# EAGLE library part N900-DISPLAY (library GTA04b7)
N900 display module (multi-functional FFC connector)
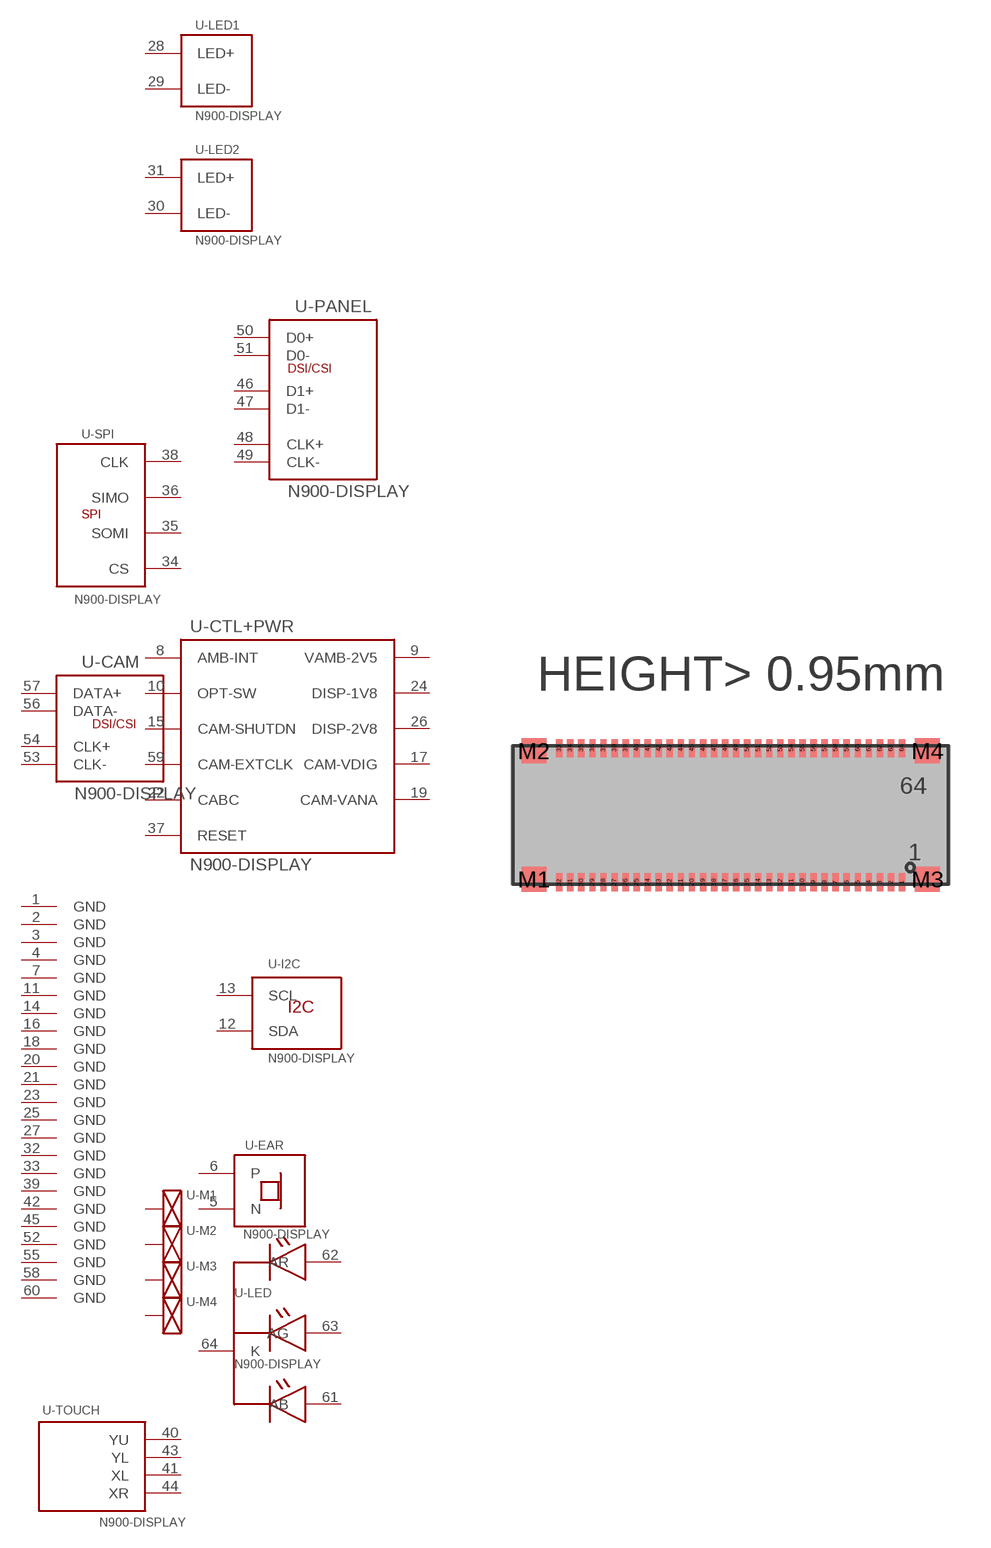
[diagram p30: symbol with the pads of 500024-6471; footprint 500024-6471]

Designator prefix -; gates -CAM=IF-MIPI1 -CTL+PWR=DISPLAY-CTL-N900 -EAR=SPEAKER -I2C=IF-I2C -LED=LED-3COLOR-K -LED1=DISPLAY-BACKLIGHT -LED2=DISPLAY-BACKLIGHT -M1=SHIELD -M2=SHIELD -M3=SHIELD -M4=SHIELD -PANEL=IF-MIPI2 -SPI=IF-SPI -TOUCH=DISPLAY-TOUCH-SMALL G$2=GND-PIN G$7=GND-PIN G$8=GND-PIN G$9=GND-PIN G$10=GND-PIN G$11=GND-PIN G$12=GND-PIN G$13=GND-PIN G$14=GND-PIN G$15=GND-PIN G$16=GND-PIN G$17=GND-PIN G$18=GND-PIN G$19=GND-PIN G$20=GND-PIN G$21=GND-PIN G$22=GND-PIN G$23=GND-PIN G$24=GND-PIN G$25=GND-PIN G$26=GND-PIN G$27=GND-PIN G$28=GND-PIN

## N900-DISPLAY  [500024-6471]
1  G$2:GND  pwr
2  G$7:GND  pwr
3  G$8:GND  pwr
4  G$9:GND  pwr
5  -EAR:N  in
6  -EAR:P  in
7  G$10:GND  pwr
8  -CTL+PWR:AMB-INT  out
9  -CTL+PWR:VAMB-2V5  pwr
10  -CTL+PWR:OPT-SW  out
11  G$11:GND  pwr
12  -I2C:SDA
13  -I2C:SCL
14  G$12:GND  pwr
15  -CTL+PWR:CAM-SHUTDN  in
16  G$13:GND  pwr
17  -CTL+PWR:CAM-VDIG  pwr
18  G$14:GND  pwr
19  -CTL+PWR:CAM-VANA  pwr
20  G$15:GND  pwr
21  G$16:GND  pwr
22  -CTL+PWR:CABC
23  G$17:GND  pwr
24  -CTL+PWR:DISP-1V8  pwr
25  G$18:GND  pwr
26  -CTL+PWR:DISP-2V8  pwr
27  G$19:GND  pwr
28  -LED1:LED+  pwr
29  -LED1:LED-  pwr
30  -LED2:LED-  pwr
31  -LED2:LED+  pwr
32  G$20:GND  pwr
33  G$21:GND  pwr
34  -SPI:CS  in
35  -SPI:SOMI
36  -SPI:SIMO
37  -CTL+PWR:RESET  in
38  -SPI:CLK
39  G$22:GND  pwr
40  -TOUCH:YU
41  -TOUCH:XL
42  G$23:GND  pwr
43  -TOUCH:YL
44  -TOUCH:XR
45  G$24:GND  pwr
46  -PANEL:D1+  pas
47  -PANEL:D1-  pas
48  -PANEL:CLK+  pas
49  -PANEL:CLK-  pas
50  -PANEL:D0+  pas
51  -PANEL:D0-  pas
52  G$25:GND  pwr
53  -CAM:CLK-  pas
54  -CAM:CLK+  pas
55  G$26:GND  pwr
56  -CAM:DATA-  pas
57  -CAM:DATA+  pas
58  G$27:GND  pwr
59  -CTL+PWR:CAM-EXTCLK  in
60  G$28:GND  pwr
61  -LED:AB  in
62  -LED:AR  in
63  -LED:AG  in
64  -LED:K  pwr
M1  -M1:SHIELD  pwr
M2  -M2:SHIELD  pwr
M3  -M3:SHIELD  pwr
M4  -M4:SHIELD  pwr

## Footprint 500024-6471 (pad centres in mm)
Molex SlimStack 0.4mm with 0.95mm stacking height (N900)
smd 0.23 x 0.65: 1 6.2,-2.425; 2 5.8,-2.425; 3 5.4,-2.425; 4 5,-2.425; 5 4.6,-2.425; 6 4.2,-2.425; 7 3.8,-2.425; 8 3.4,-2.425; 9 3,-2.425; 10 2.6,-2.425; 11 2.2,-2.425; 12 1.8,-2.425; 13 1.4,-2.425; 14 1,-2.425; 15 0.6,-2.425; 16 0.2,-2.425; 17 -0.2,-2.425; 18 -0.6,-2.425; 19 -1,-2.425; 20 -1.4,-2.425; 21 -1.8,-2.425; 22 -2.2,-2.425; 23 -2.6,-2.425; 24 -3,-2.425; 25 -3.4,-2.425; 26 -3.8,-2.425; 27 -4.2,-2.425; 28 -4.6,-2.425; 29 -5,-2.425; 30 -5.4,-2.425; 31 -5.8,-2.425; 32 -6.2,-2.425; 33 -6.2,2.425; 34 -5.8,2.425; 35 -5.4,2.425; 36 -5,2.425; 37 -4.6,2.425; 38 -4.2,2.425; 39 -3.8,2.425; 40 -3.4,2.425; 41 -3,2.425; 42 -2.6,2.425; 43 -2.2,2.425; 44 -1.8,2.425; 45 -1.4,2.425; 46 -1,2.425; 47 -0.6,2.425; 48 -0.2,2.425; 49 0.2,2.425; 50 0.6,2.425; 51 1,2.425; 52 1.4,2.425; 53 1.8,2.425; 54 2.2,2.425; 55 2.6,2.425; 56 3,2.425; 57 3.4,2.425; 58 3.8,2.425; 59 4.2,2.425; 60 4.6,2.425; 61 5,2.425; 62 5.4,2.425; 63 5.8,2.425; 64 6.2,2.425
smd 0.9 x 0.9: M1 -7.12,-2.32; M2 -7.12,2.32; M3 7.12,-2.32; M4 7.12,2.32